# EAGLE library part MAX6650 (library di_ic)
Fan-Speed Regulators and Monitors with SMBus/I2C-Compatible Interface
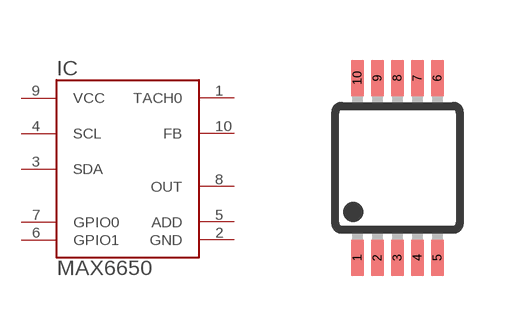
[diagram p29: symbol with the pads of UMAX10; footprint UMAX10]

Designator prefix IC

## MAX6650  [UMAX10]
1  TACH0
2  GND
3  SDA
4  SCL
5  ADD
6  GPIO1
7  GPIO0
8  OUT
9  VCC
10  FB

## Footprint UMAX10 (pad centres in mm)
micro MAX Package
smd 0.32 x 0.9: 1 -1,-2.25; 2 -0.5,-2.25; 3 0,-2.25; 4 0.5,-2.25; 5 1,-2.25; 6 1,2.25; 7 0.5,2.25; 8 0,2.25; 9 -0.5,2.25; 10 -1,2.25